# Altium footprint library PcbLibInduction.PcbLib: 27 footprints (part 1 of 2)
Each footprint in its own frame and in the unit in brackets; x right, y up, seen from the top. Pads: shape width x height; smd on the part's side, far side on the other; paste and mask are expansions set on the pad; w line width, h text height; cw(c..) or ccw(c..) is an arc to the next point about the centre after c.
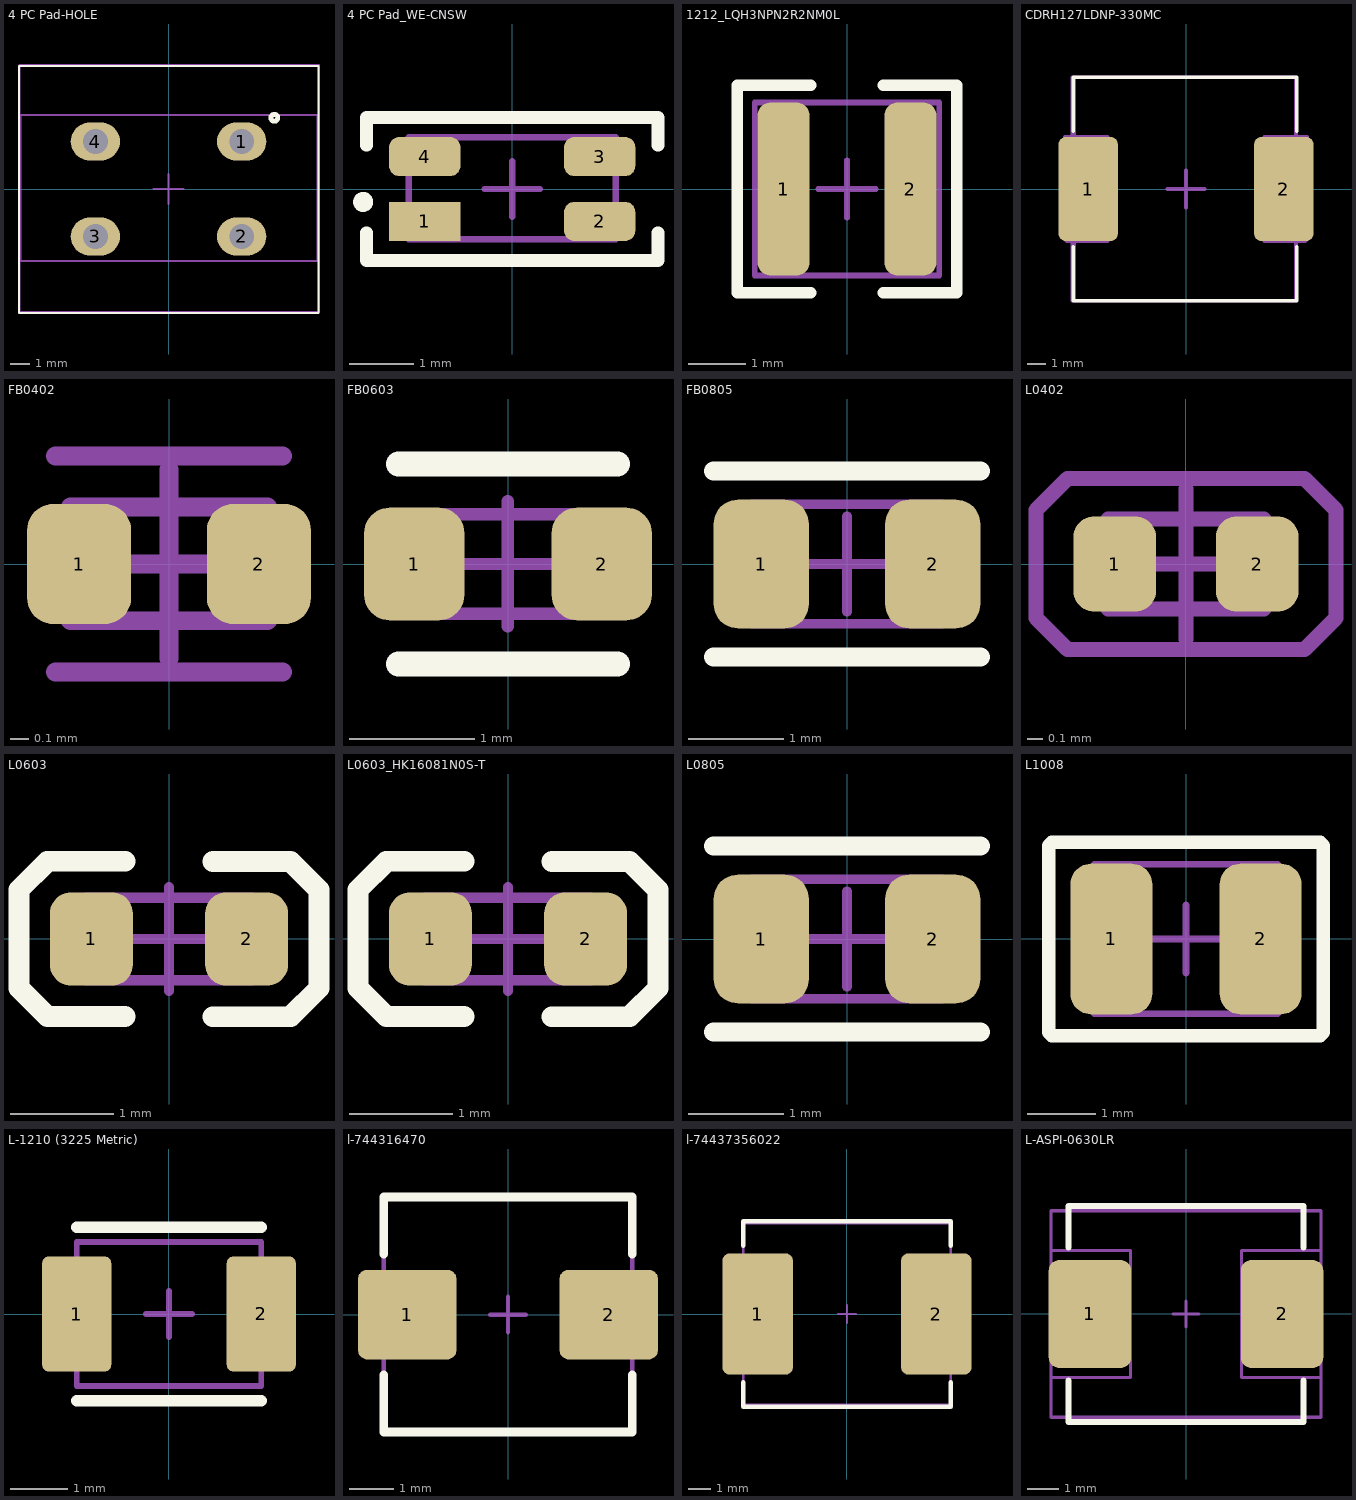
[diagram p0: the footprints below, top view; thin cyan lines are the x and y axes]

## 4 PC Pad-HOLE [mm]
pads (4):
  oval 2.6x2 hole 1.3: 1(3.85,2.5) 2(3.85,-2.5) 3(-3.85,-2.5) 4(-3.85,2.5)
Top Overlay:
  lines w0.1: -7.85,6.475 -7.875,6.475 ; -7.875,6.475 7.9,6.475 7.9,-6.525 -7.875,-6.525 -7.875,6.475
  lines w0.254: 5.753,3.711 cw(c5.575,3.75) 5.757,3.75
TopAssy:
  lines w0.1: -7.825,6.525 -7.85,6.525 ; -7.85,6.525 7.925,6.525 7.925,-6.475 -7.85,-6.475 -7.85,6.525
Inside:
  lines w0.1: -0.787,0 0.787,0 ; 0,-0.787 0,0.787 ; -7.8,-3.8 7.85,-3.8 7.85,3.9 -7.8,3.9 -7.8,-3.8
3D body "STEP-WE-CMB-HC-S-rev1.stp": height 19, standoff -4.4, extent -7.828,-6.538 7.891,6.462

## 4 PC Pad_WE-CNSW [mm] "Body 3.20mm x 1.60mm"
height 2.1
pads (4):
  rect 1.1x0.6 smd: 1(-1.35,-0.5)
  rrect50% 1.1x0.6 smd: 2(1.35,-0.5) 3(1.35,0.5) 4(-1.35,0.5)
Top Overlay:
  circle w0.15: c-2.3,-0.2 r0.08
  lines w0.2: -2.25,-0.675 -2.25,-1.1 2.25,-1.1 2.25,-0.675 ; -2.25,0.675 -2.25,1.1 2.25,1.1 2.25,0.675
TopAssy:
  lines w0.1: -1.6,-0.775 -1.6,0.8 1.6,0.8 1.6,-0.775 -1.6,-0.775
Inside:
  lines w0.1: -0.425,0 0.425,0 ; 0,-0.425 0,0.425
3D body "STEP-WE-CNSW-1206-rev1.stp": height 1.83, standoff -0.07, extent -1.6,-0.8 1.6,0.8

## 1212_LQH3NPN2R2NM0L [mm]
pads (2):
  rrect50% 0.9x3 smd: 1(-1.1,0) 2(1.1,0)
Top Overlay:
  lines w0.2: -0.625,-1.8 -1.9,-1.8 -1.9,1.8 -0.625,1.8 ; 0.625,-1.8 1.9,-1.8 1.9,1.8 0.625,1.8
TopAssy:
  lines w0.1: -1.1,-1.5 -1.1,1.5 ; 1.1,-1.5 1.1,1.5 ; -1.6,-1.5 1.6,-1.5 1.6,1.5 -1.6,1.5 -1.6,-1.5
Inside:
  lines w0.1: -0.5,0 0.5,0 ; 0,-0.5 0,0.5
3D body "LQH3NPN2R2NM0L.STEP": height 1.5, standoff 0, extent -1.5,-1.5 1.5,1.5

## CDRH127LDNP-330MC [mm] "12mmx12mmx5mm"
height 5
pads (2):
  rrect25% 3.2x5.6 smd: 1(-5.25,0) 2(5.25,0)
Top Overlay:
  lines w0.2: -6.05,-3.1 -6.05,-6 5.95,-6 5.95,-3.1 ; -6.05,3.1 -6.05,6 5.95,6 5.95,3.1
TopAssy:
  lines w0.2: -6,-2.9 -6,-6 5.9,-6 5.9,-3 ; -6,2.9 -6,6 5.9,6 5.9,3 ; -6.5,-2.7 -6.4,-2.8 -4.2,-2.8 -4.2,2.8 -6.5,2.8 -6.5,-2.7 ; 4.2,-2.8 4.2,2.8 6.5,2.8 6.5,-2.7 6.4,-2.8 4.2,-2.8
Inside:
  lines w0.2: -1,0 0,0 ; 0,-1 0,0 ; 0,1 0,0 ; 1,0 0,0 ; -6.1,-6 -4.7,-6 5.9,-6 5.9,6 -6.1,6 -6.1,-6
3D body "User Library-CDRH127-2.step": height 8.1, standoff 0.1, extent -6.05,-6 5.95,6

## FB0402 [mm]
height 0.55
pads (2):
  rrect50% 0.55x0.635 smd: 1(-0.475,0) 2(0.475,0)
TopAssy:
  lines w0.1: -0.3,-0.3 -0.3,0.3 ; 0.3,-0.3 0.3,0.3 ; -0.52,-0.3 -0.52,0.3 0.52,0.3 0.52,-0.3 -0.52,-0.3
Bottom Assy:
  lines w0.1: -0.6,0.57 0.6,0.57 ; -0.6,-0.57 0.6,-0.57
Inside:
  lines w0.1: -0.5,0 0.5,0 ; 0,-0.5 0,0.5
3D body "User Library-FB_1005.STEP": height 0.5, standoff 0, extent -0.5,-0.25 0.5,0.25

## FB0603 [mm] "Body 1,6x0,8x0,8"
height 0.8
pads (2):
  rrect50% 0.8x0.9 smd paste-0.05: 1(-0.75,0) 2(0.75,0)
Top Overlay:
  lines w0.2: -0.875,-0.8 0,-0.8 0.875,-0.8 ; -0.875,0.8 0,0.8 0.875,0.8
TopAssy:
  lines w0.1: -0.5,-0.4 -0.5,0.4 ; 0.5,-0.4 0.5,0.4 ; -0.8,-0.4 -0.8,0.4 0.8,0.4 0.8,-0.4 -0.8,-0.4
Inside:
  lines w0.1: -0.5,0 0.5,0 ; 0,-0.5 0,0.5
3D body "FB_0603.stp": height 0.8, standoff 0, extent -0.8,-0.4 0.8,0.4

## FB0805 [mm]
pads (2):
  rrect50% 1x1.35 smd: 1(-0.9,0) 2(0.9,0)
Top Overlay:
  lines w0.2: -1.4,-0.975 1.4,-0.975 ; -1.4,0.975 1.4,0.975
TopAssy:
  lines w0.1: -0.6,-0.625 -0.6,0.625 ; 0.6,-0.625 0.6,0.625 ; -1,-0.625 1,-0.625 1,0.625 -1,0.625 -1,-0.625
Inside:
  lines w0.1: -0.5,0 0.5,0 ; 0,-0.5 0,0.5
3D body "User Library-ind_0805.step": height 0.95, standoff 0, extent -1,-0.6 1,0.6

## L0402 [mm]
pads (2):
  rrect50% 0.55x0.635 smd: 1(-0.475,0) 2(0.475,0)
TopAssy:
  lines w0.1: -0.3,-0.3 -0.3,0.3 ; 0.3,-0.3 0.3,0.3 ; -0.52,-0.3 -0.52,0.3 0.52,0.3 0.52,-0.3 -0.52,-0.3
Bottom Assy:
  lines w0.1: -1,-0.36 -1,0.36 -0.79,0.57 0.79,0.57 1,0.36 1,-0.36 0.79,-0.57 -0.79,-0.57 -1,-0.36
Inside:
  lines w0.1: -0.5,0 0.5,0 ; 0,-0.5 0,0.5
3D body "68864.stp": height 0.46, standoff -0.04, extent -0.5,-0.275 0.5,0.275

## L0603 [mm] "Body 1,6x0,8x0,6"
height 0.6
pads (2):
  rrect50% 0.8x0.9 smd: 1(-0.75,0) 2(0.75,0)
Top Overlay:
  lines w0.2: -0.425,-0.75 -1.175,-0.75 -1.45,-0.475 -1.45,0.475 -1.175,0.75 -0.425,0.75 ; 0.425,-0.75 1.175,-0.75 1.45,-0.475 1.45,0.475 1.175,0.75 0.425,0.75
TopAssy:
  lines w0.1: -0.5,-0.4 -0.5,0.4 ; 0.5,-0.4 0.5,0.4 ; -0.8,-0.4 -0.8,0.4 0.8,0.4 0.8,-0.4 -0.8,-0.4
Inside:
  lines w0.1: -0.5,0 0.5,0 ; 0,-0.5 0,0.5
3D body: height 0.6, standoff 0, extent -0.8,-0.4 0.8,0.4

## L0603_HK16081N0S-T [mm] "Body 1,6x0,8x0,8"
height 0.8
pads (2):
  rrect50% 0.8x0.9 smd: 1(-0.75,0) 2(0.75,0)
Top Overlay:
  lines w0.2: -0.425,-0.75 -1.175,-0.75 -1.45,-0.475 -1.45,0.475 -1.175,0.75 -0.425,0.75 ; 0.425,-0.75 1.175,-0.75 1.45,-0.475 1.45,0.475 1.175,0.75 0.425,0.75
TopAssy:
  lines w0.1: -0.5,-0.4 -0.5,0.4 ; 0.5,-0.4 0.5,0.4 ; -0.8,-0.4 -0.8,0.4 0.8,0.4 0.8,-0.4 -0.8,-0.4
Inside:
  lines w0.1: -0.5,0 0.5,0 ; 0,-0.5 0,0.5
3D body: height 0.8, standoff 0, extent -0.8,-0.4 0.8,0.4

## L0805 [mm]
height 1.25
pads (2):
  rrect50% 1x1.35 smd: 1(-0.9,0) 2(0.9,0)
Top Overlay:
  lines w0.2: -1.4,-0.975 1.4,-0.975 ; -1.4,0.975 1.4,0.975
TopAssy:
  lines w0.1: -0.6,-0.625 -0.6,0.625 ; 0.6,-0.625 0.6,0.625 ; -1,-0.625 1,-0.625 1,0.625 -1,0.625 -1,-0.625
Inside:
  lines w0.1: -0.5,0 0.5,0 ; 0,-0.5 0,0.5
3D body "CB2012T100KR.STEP": height 1.25, standoff 0, extent -1,-0.625 1,0.625

## L1008 [mm] "Chip Inductor, 2-Leads, Body 2,50x2,00mm, IPC Medium Density"
height 0.7
pads (2):
  rrect50% 1.21x2.22 smd: 1(-1.1,0) 2(1.1,0)
Top Overlay:
  lines w0.2: -2.025,-1.375 -1.975,-1.425 1.975,-1.425 2.025,-1.375 2.025,1.375 1.975,1.425 -1.975,1.425 -2.025,1.375 -2.025,-1.375
TopAssy:
  lines w0.1: -1.35,-1.1 1.35,-1.1 1.35,1.1 -1.35,1.1 -1.35,-1.1
Inside:
  lines w0.1: -0.5,0 0.5,0 ; 0,-0.5 0,0.5
Size:
  lines w0.05: -2,-1.4 2,-1.4 2,1.4 -2,1.4 -2,-1.4
3D body "INDC2520X07N.step": height 0.7, standoff 0, extent -1.35,-1.1 1.35,1.1

## L-1210 (3225 Metric) [mm] "0.126\" L x 0.098\" W (3.20mm x 2.50mm)_M"
height 2.4
pads (2):
  rrect20% 1.2x2 smd: 1(-1.6,0) 2(1.6,0)
Top Overlay:
  lines w0.2: -1.6,-1.5 1.6,-1.5 ; -1.6,1.5 1.6,1.5
TopAssy:
  lines w0.1: -1.6,-1.25 -1.6,1.25 1.6,1.25 1.6,-1.25 -1.6,-1.25
Inside:
  lines w0.1: -0.4,0 0.4,0 ; 0,-0.4 0,0.4
3D body "User Library-SIMID 1210-H.STEP": height 2.33, standoff -0.07, extent -1.6,-1.25 1.6,1.25
3D body "User Library-SIMID 1210-H.STEP": height 2.35, standoff -0.05, extent -1.6,-1.25 1.6,1.25

## l-744316470 [mm]
pads (2):
  rrect20% 2.2x2 smd: 1(-2.25,0) 2(2.25,0)
Top Overlay:
  lines w0.2: -2.775,-1.35 -2.775,-2.625 2.775,-2.625 2.775,-1.35 ; -2.775,1.35 -2.775,2.625 2.75,2.625 2.775,2.6 ; 2.775,1.35 2.775,2.625
TopAssy:
  lines w0.1: -2.775,-2.625 2.775,-2.625 2.775,2.65 -2.75,2.65 -2.775,2.625 -2.775,-2.625
Inside:
  lines w0.1: -0.4,0 0.4,0 ; 0,-0.4 0,0.4
Size:
  lines w0.1: -2.75,-2.6 -2.75,-2.575 ; 2.75,2.575 2.75,2.6
3D body "STEP-WE-HCI-5040-rev1.stp": height 3.95, standoff 0, extent -2.79,-2.65 2.79,2.65

## l-74437356022 [mm]
pads (2):
  rrect20% 3.2x5.5 smd: 1(-4.05,0) 2(4.05,0)
Top Overlay:
  lines w0.2: -4.7,-3.1 -4.7,-4.2 4.7,-4.2 4.7,-3.1 ; -4.7,3.1 -4.7,4.2 4.7,4.2 4.7,3.1
TopAssy:
  lines w0.1: -4.7,-4.1 4.7,-4.1 ; -4.7,-4.1 -4.7,4.1 4.7,4.1 4.7,-4.1 ; -4.7,-4.1 4.7,-4.1
Inside:
  lines w0.1: -0.4,0 0.4,0 ; 0,-0.4 0,0.4
3D body "STEP-WE-LHMI-8030-rev1.stp": height 3, standoff 0, extent -4.725,-4.1 4.725,4.1

## L-ASPI-0630LR [mm]
pads (2):
  rrect25% 2.6x3.4 smd: 1(-3.025,0) 2(3.025,0)
Top Overlay:
  lines w0.2: -3.7,-2.1 -3.7,-3.4 3.7,-3.4 3.7,-2.1 ; -3.7,2.1 -3.7,3.4 3.7,3.4 3.7,2.1
TopAssy:
  lines w0.1: -4.25,-2 -1.75,-2 -1.75,2 -4.25,2 ; 4.25,-2 1.75,-2 1.75,2 4.25,2 ; -4.25,-3.25 4.25,-3.25 4.25,3.25 -4.25,3.25 -4.25,-3.25
Inside:
  lines w0.1: -0.4,0 0.4,0 ; 0,-0.4 0,0.4
3D body "ASPI-0630LR.STEP": height 3, standoff 0, extent -3.6,-3.325 3.6,3.325